# Altium schematic symbol library RCLD.SchLib: 14 symbols
Pins are listed as number, name and electrical type; pins without a type are passive.

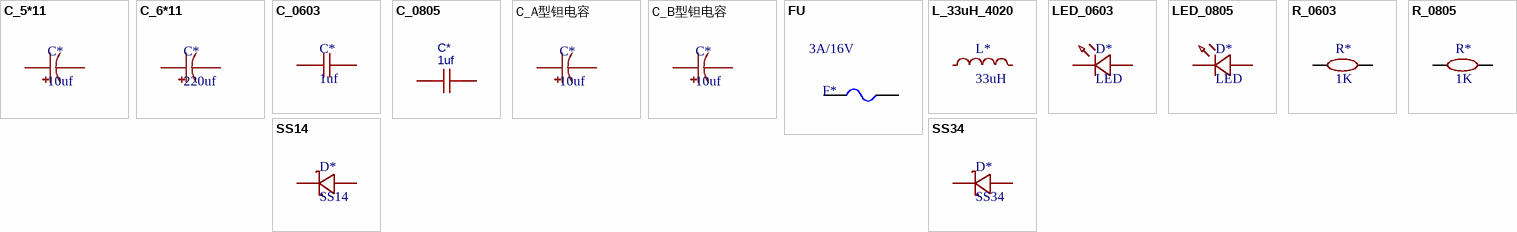
[diagram p0: symbols C_5*11 to SS34]

## C_5*11
designator C*, comment 10uf
25V/50V/10uf    16V/100uf
footprint CAP 2.0*5*11 (脚距2mm直径5mm高度11mm                 淘宝ID:黄晶宝石)
pins: 1, 2

## C_6*11
designator C*, comment 220uf
25V/220uf
footprint CAP 2.5*6.3*11.2 (脚距2.5mm直径6.3mm高度11.2mm)
pins: 1, 2

## C_0603
designator C*, comment 1uf
4.7nf-4.7uf
footprint C_0603
pins: 1, 2

## C_0805
designator C*, comment 1uf
4.7nf-4.7uf; BOM_Manufacturer Part: CL21A106KAYNNNE; BOM_Manufacturer: SAMSUNG; nameAlias: Capacitance; BOM_Supplier: LCSC; BOM_Supplier Part: C15850; BOM_JLCPCB Part Class: Basic Part; spicePre: C; spiceSymbolName: CL21A106KAYNNNE
footprint C_0805 (Footprint not found)
pins: 1, 2

## C_A型钽电容
designator C*, comment 10uf
16V/10uf
footprint CD A(3216) (长3.2mm，宽1.6mm，厚1.6mm      淘宝ID:黄晶宝石)
pins: 1, 2

## C_B型钽电容
designator C*, comment 10uf
35V/1uf-25V/10uf-6.3V/220uf
footprint CD B(3528) (长3.5mm，宽2.8mm，厚1.9mm)
pins: 1, 2

## FU
designator F*, comment 3A/16V
BOM名称: 贴片保险丝; 版权归属: 封装库来自淘宝卖家 ID：黄晶宝石; 学习资源: https://shop463601444.taobao.com
footprint FU 1812 (贴片保险丝-1812)
pins: 1, 2

## L_33uH_4020
designator L*, comment 33uH
1.5uH-33uH
footprint L_SWPA4020
pins: 1, 2

## LED_0603
designator D*, comment LED
footprint LED_0603
pins: 1 K, 2 A

## LED_0805
designator D*, comment LED
footprint LED_0805
pins: 1 K, 2 A

## R_0603
designator R*, comment 1K
footprint R_0603
pins: 1, 2

## R_0805
designator R*, comment 1K
footprint R_0805
pins: 1, 2

## SS14
designator D*
1A/40V
footprint D_1N5819
pins: 1, 2

## SS34
designator D*
3A/40
footprint D_1N5819
pins: 1, 2